# EAGLE library part LAN8742A-CZ-TR (library LAN8742A-CZ-TR)
Ethernet ICs Source: Datasheet <http://ww1.microchip.com/downloads/en/DeviceDoc/8742a.pdf>
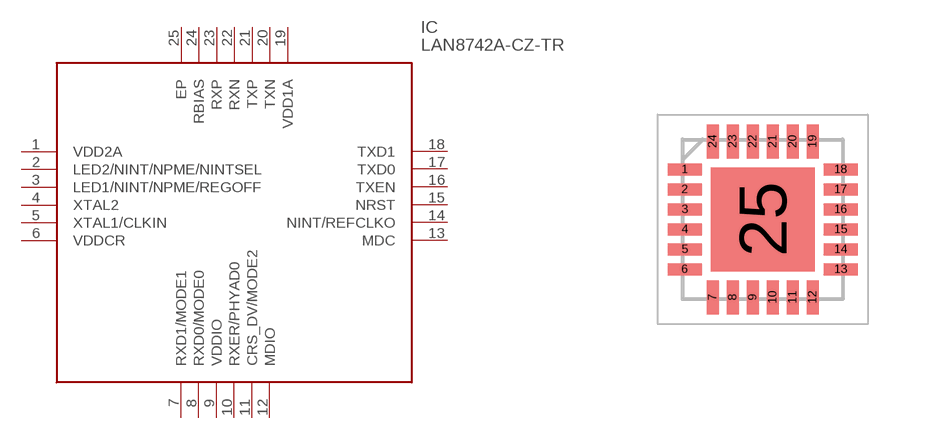
[diagram p0: symbol with the pads of QFN50P400X400X100-25N; footprint QFN50P400X400X100-25N]

Designator prefix IC

## LAN8742A-CZ-TR (Description: Ethernet ICs; Height: 1mm; Manufacturer_Name: Microchip; Manufacturer_Part_Number: LAN8742A-CZ-TR; Mouser_Part_Number: 579-LAN8742A-CZ-TR; Mouser_Price-Stock: https://www.mouser.co.uk/ProductDetail/Microchip-Technology/LAN8742A-CZ-TR?qs=6qKXPk0vzx0Y6uPCt7MXWw%3D%3D)  [QFN50P400X400X100-25N]
1  VDD2A
2  LED2/NINT/NPME/NINTSEL
3  LED1/NINT/NPME/REGOFF
4  XTAL2
5  XTAL1/CLKIN
6  VDDCR
7  RXD1/MODE1
8  RXD0/MODE0
9  VDDIO
10  RXER/PHYAD0
11  CRS_DV/MODE2
12  MDIO
13  MDC
14  NINT/REFCLKO
15  NRST
16  TXEN
17  TXD0
18  TXD1
19  VDD1A
20  TXN
21  TXP
22  RXN
23  RXP
24  RBIAS
25  EP

## Footprint QFN50P400X400X100-25N (pad centres in mm)
24-Pin SQFN
smd 0.85 x 0.3: 1 -1.95,1.25; 2 -1.95,0.75; 3 -1.95,0.25; 4 -1.95,-0.25; 5 -1.95,-0.75; 6 -1.95,-1.25; 13 1.95,-1.25; 14 1.95,-0.75; 15 1.95,-0.25; 16 1.95,0.25; 17 1.95,0.75; 18 1.95,1.25
smd 0.3 x 0.85: 7 -1.25,-1.95; 8 -0.75,-1.95; 9 -0.25,-1.95; 10 0.25,-1.95; 11 0.75,-1.95; 12 1.25,-1.95; 19 1.25,1.95; 20 0.75,1.95; 21 0.25,1.95; 22 -0.25,1.95; 23 -0.75,1.95; 24 -1.25,1.95
smd 2.6 x 2.6: 25 0,0